# Altium footprint library MELF1.PcbLib: 1 footprints
Each footprint in its own frame and in the unit in brackets; x right, y up, seen from the top. Pads: shape width x height; smd on the part's side, far side on the other; paste and mask are expansions set on the pad; w line width, h text height; cw(c..) or ccw(c..) is an arc to the next point about the centre after c.
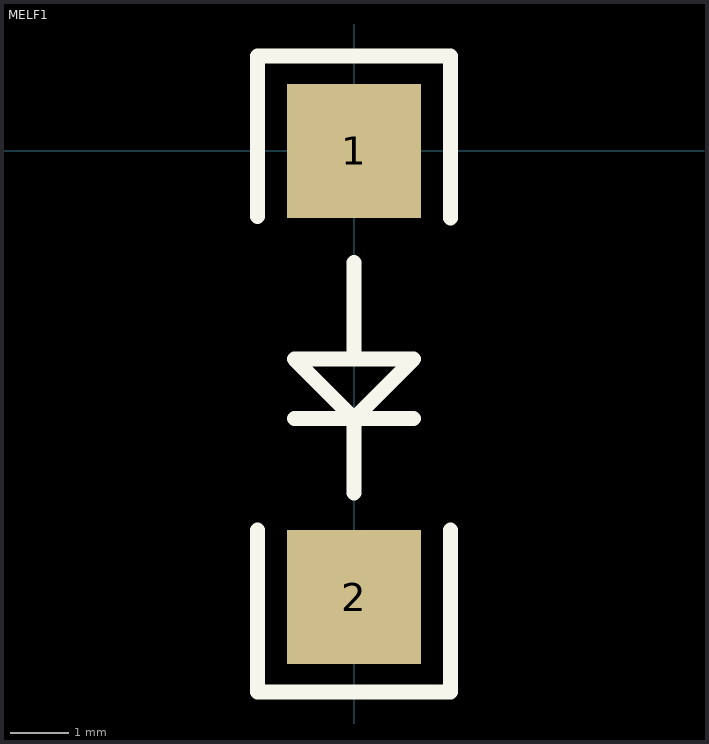
[diagram p0: the footprint, top view; thin cyan lines are the x and y axes]

## MELF1 [mil]
pads (2):
  rect 90x90 smd: 1(0,0) 2(0,-300)
TopOverlay:
  lines w10: -65,-255 -65,-364 65,-364 65,-255 ; -65,-44 -65,64 -55,64 55,64 65,64 65,9 65,-45 ; -40,-180 40,-180 ; 0,-230 0,-180 ; 0,-75 0,-140 ; 0,-180 40,-140 0,-140 ; 0,-180 -40,-140 0,-140